# Altium schematic symbol library TIP125.SchLib: 1 symbol
Pins are listed as number, name and electrical type; pins without a type are passive.

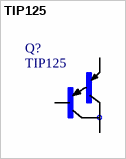
[diagram p0: symbol TIP125]

## TIP125
designator Q?
Bipolar _BJT_ Transistor PNP - Darlington 60V 5A 2W Through Hole TO-220-3; MF: ON Semiconductor; Availability: Unavailable; SnapEDA_Link: https://www.snapeda.com/parts/TIP125/ON%20Semiconductor/view-part/110798/?ref=snap; Price: None; MP: TIP125; Package: TO-220 Fairchild Semiconductor; Value: *
footprint *TO220
pins: 1 B, 2 C, 3 E